# EAGLE library part ALEXIOS_74*74 (library CFT-PB0-revB)
Dual D type positive edge triggered FLIP FLOP, preset and clear
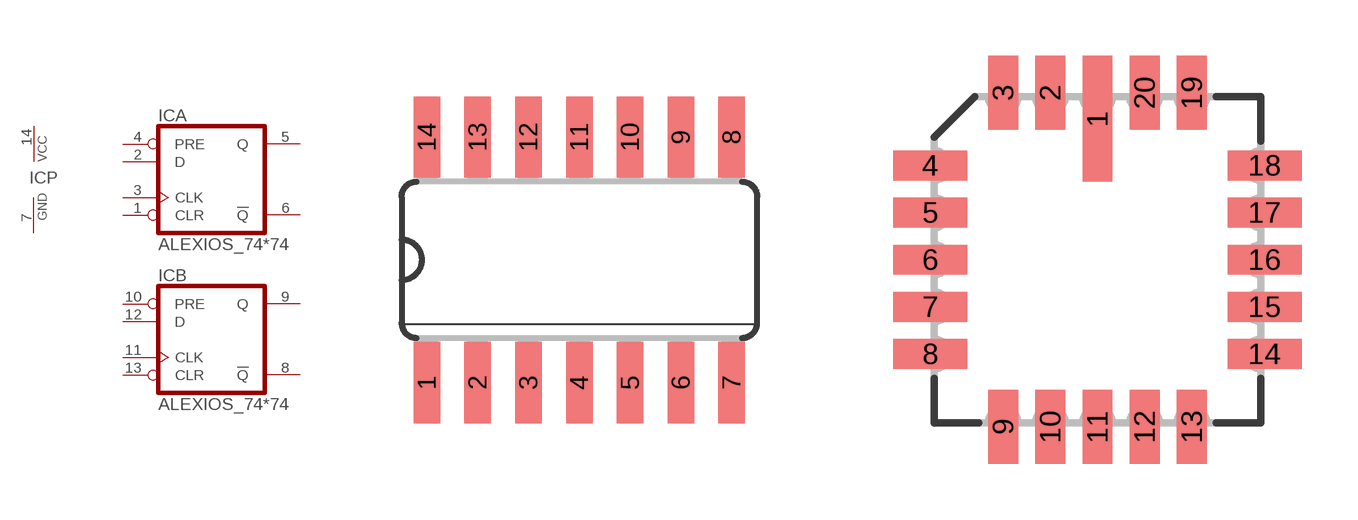
[diagram p2: symbol with the pads of ALEXIOS_SO14; footprints ALEXIOS_SO14, ALEXIOS_LCC20]

Designator prefix IC; gates A=ALEXIOS_7474 B=ALEXIOS_7474 P=ALEXIOS_PWRN

## ALEXIOS_7474D, ALEXIOS_74AC74D, ALEXIOS_74ACT74D, ALEXIOS_74HC74D, ALEXIOS_74HCT74D, ALEXIOS_74LS74D, ALEXIOS_74S74D  [ALEXIOS_SO14]
1  A:CLR  in
2  A:D  in
3  A:CLK  in
4  A:PRE  in
5  A:Q  out
6  A:!Q  out
7  P:GND  pwr
8  B:!Q  out
9  B:Q  out
10  B:PRE  in
11  B:CLK  in
12  B:D  in
13  B:CLR  in
14  P:VCC  pwr

## ALEXIOS_7474FK, ALEXIOS_74AC74FK, ALEXIOS_74ACT74FK, ALEXIOS_74HC74FK, ALEXIOS_74HCT74FK, ALEXIOS_74LS74FK, ALEXIOS_74S74FK  [ALEXIOS_LCC20]
2  A:CLR  in
3  A:D  in
4  A:CLK  in
6  A:PRE  in
8  A:Q  out
9  A:!Q  out
10  P:GND  pwr
12  B:!Q  out
13  B:Q  out
14  B:PRE  in
16  B:CLK  in
18  B:D  in
19  B:CLR  in
20  P:VCC  pwr

## ALEXIOS_7474N, ALEXIOS_74AC74N, ALEXIOS_74ACT74N, ALEXIOS_74HC74N, ALEXIOS_74HCT74N, ALEXIOS_74LS74N, ALEXIOS_74S74N  [ALEXIOS_DIL14]
Pads as for ALEXIOS_SO14

## Footprint ALEXIOS_SO14 (pad centres in mm)
Small Outline package 150 mil
smd 0.66 x 2.032: 1 -3.81,-3.073; 2 -2.54,-3.073; 3 -1.27,-3.073; 4 0,-3.073; 5 1.27,-3.073; 6 2.54,-3.073; 7 3.81,-3.073; 8 3.81,3.073; 9 2.54,3.073; 10 1.27,3.073; 11 0,3.073; 12 -1.27,3.073; 13 -2.54,3.073; 14 -3.81,3.073

## Footprint ALEXIOS_LCC20 (pad centres in mm)
Leadless Chip Carrier Ceramic Package
smd 0.8 x 3.4: 1 0,3.8
smd 0.8 x 2: 2 -1.27,4.5; 3 -2.54,4.5; 9 -2.54,-4.5; 10 -1.27,-4.5; 11 0,-4.5; 12 1.27,-4.5; 13 2.54,-4.5; 19 2.54,4.5; 20 1.27,4.5
smd 2 x 0.8: 4 -4.5,2.54; 5 -4.5,1.27; 6 -4.5,0; 7 -4.5,-1.27; 8 -4.5,-2.54; 14 4.5,-2.54; 15 4.5,-1.27; 16 4.5,0; 17 4.5,1.27; 18 4.5,2.54

## Footprint ALEXIOS_DIL14 (pad centres in mm)
Dual In Line Package
drill 0.813 long: 1 -7.62,-3.81; 2 -5.08,-3.81; 3 -2.54,-3.81; 4 0,-3.81; 5 2.54,-3.81; 6 5.08,-3.81; 7 7.62,-3.81; 8 7.62,3.81; 9 5.08,3.81; 10 2.54,3.81; 11 0,3.81; 12 -2.54,3.81; 13 -5.08,3.81; 14 -7.62,3.81